# Altium footprint library PCB封装.PcbLib: 150 footprints (part 10 of 10)
Each footprint in its own frame and in the unit in brackets; x right, y up, seen from the top. Pads: shape width x height; smd on the part's side, far side on the other; paste and mask are expansions set on the pad; w line width, h text height; cw(c..) or ccw(c..) is an arc to the next point about the centre after c.
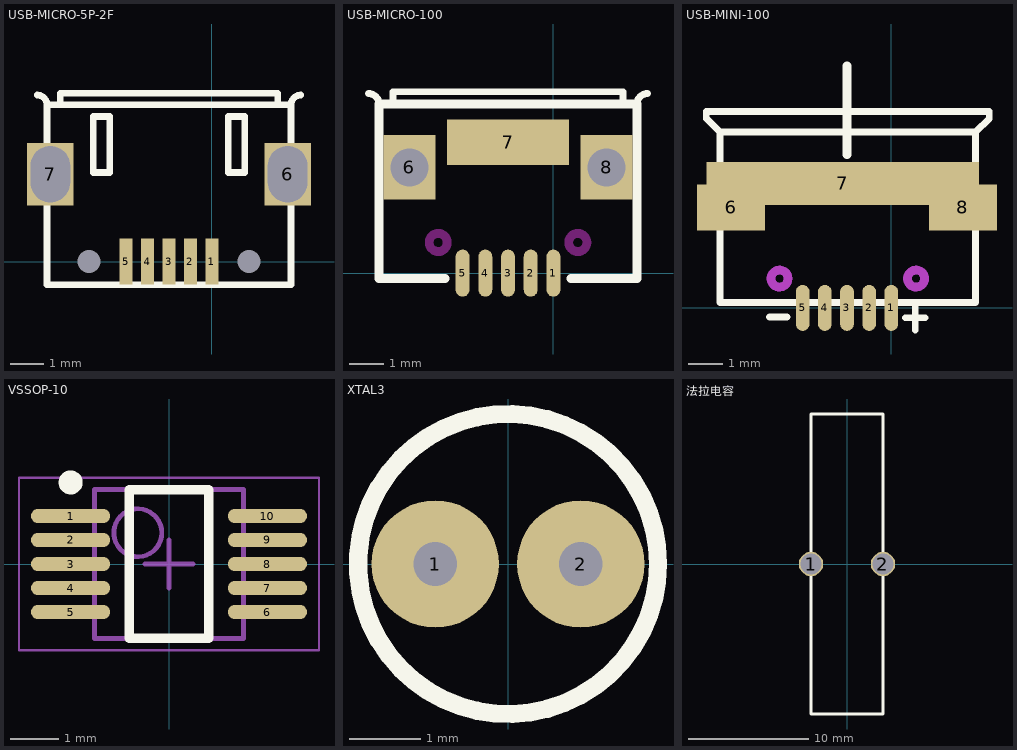
[diagram p9: the footprints below, top view; thin cyan lines are the x and y axes]

## USB-MICRO-5P-2F [mm]
pads (9):
  round 0 hole 0.7: 0(-3.725,0) 0(1.125,0)
  rect 0.4x1.4 smd: 1(0,0) 2(-0.65,0) 3(-1.3,0) 4(-1.95,0) 5(-2.6,0)
  rect 1.4x1.9 hole 1.2 slot 1.7 at 90 deg: 6(2.3,2.65) 7(-4.9,2.65)
Top Overlay:
  lines w0.2: -5.3,5.05 cw(c-5.3,4.75) -5,4.75 2.4,4.75 cw(c2.7,4.75) 2.7,5.05 ; -5,4.8 -5,-0.7 2.4,-0.7 2.4,4.8 ; -4.6,4.75 -4.6,5.1 2,5.1 2,4.75 ; -3.6,2.7 -3.1,2.7 -3.1,4.4 -3.6,4.4 -3.6,2.7 ; 0.5,2.7 1,2.7 1,4.4 0.5,4.4 0.5,2.7

## USB-MICRO-100 [mm]
pads (8):
  oval 0.4x1.35 smd: 1(0,0) 2(-0.65,0) 3(-1.3,0) 4(-1.95,0) 5(-2.6,0)
  rect 1.5x1.85 hole 1.1: 6(-4.125,3.03) 8(1.525,3.03)
  rect 3.5x1.3 smd: 7(-1.3,3.75)
Top Overlay:
  lines w0.2: -5.3,5.15 cw(c-5.3,4.85) -5,4.85 ; -4.6,4.85 -4.6,5.2 2,5.2 2,4.85 ; 2.4,4.85 cw(c2.7,4.85) 2.7,5.15
  lines w0.254: -3.1,-0.15 -5,-0.15 -5,4.85 2.4,4.85 2.4,-0.15 0.5,-0.15
Bottom Overlay:
  lines w0.254: -5.4,4.65 2.8,4.65 ; -5.4,-0.15 2.8,-0.15 2.8,5.25 -5.4,5.25 -5.4,-0.15
Keep-Out Layer:
  circle w0.254: c-3.3,0.88 r0.26
  circle w0.254: c0.7,0.88 r0.26

## USB-MINI-100 [mm]
pads (8):
  oval 0.4x1.35 smd: 1(0,0) 2(-0.65,0) 3(-1.3,0) 4(-1.95,0) 5(-2.6,0)
  rect 2x1.35 smd: 6(-4.7,2.95) 8(2.1,2.95)
  rect 8x1.27 smd: 7(-1.422,3.65)
Top Overlay:
  lines w0.2: -3.57,-0.27 -3.06,-0.27 ; 0.41,-0.29 0.99,-0.29 ; 0.7,-0.65 0.7,0.05 ; -5.026,5.158 -5.426,5.558 -5.426,5.758 2.874,5.758 2.874,5.558 2.474,5.158 ; -5.026,5.158 -5.026,0.158 2.474,0.158 2.474,5.158 ; -5.026,5.158 2.474,5.158
  lines w0.254: -1.3,4.5 -1.3,7.1
Keep-Out Layer:
  circle w0.254: c0.725,0.86 r0.25
  circle w0.254: c-3.28,0.86 r0.25
Mechanical 1:
  circle w0.254: c-3.28,0.86 r0.25
  circle w0.254: c0.725,0.86 r0.25

## VSSOP-10 [mm] "INA226"
height 1.1
pads (10):
  oval 1.65x0.3 smd: 1(-2.05,1) 2(-2.05,0.5) 3(-2.05,0) 4(-2.05,-0.5) 5(-2.05,-1) 6(2.05,-1) 7(2.05,-0.5) 8(2.05,0) 9(2.05,0.5) 10(2.05,1)
Top Overlay:
  circle w0.25: c-2.05,1.7 r0.125
  lines w0.2: -0.825,-1.55 0.825,-1.55 0.825,1.55 -0.825,1.55 -0.825,-1.55
Mechanical 13:
  circle w0.1: c-0.65,0.65 r0.5
  lines w0.1: -1.55,-1.55 1.55,-1.55 1.55,1.55 -1.55,1.55 -1.55,-1.55
Mechanical 15:
  lines w0.05: -3.125,-1.8 3.125,-1.8 3.125,1.8 -3.125,1.8 -3.125,-1.8
  lines w0.1: -0.5,0 0.5,0 ; 0,-0.5 0,0.5
3D body: height 1.1, standoff 0.05, extent -1.55,-1.55 1.55,1.55

## XTAL3 [mil]
pads (2):
  round 70 on Top hole 24: 1(-40,0) 2(40,0)
Top Overlay:
  circle w10: c0,0 r82.46

## 法拉电容 [mil]
height 984.25
pads (2):
  round 80 hole 70: 1(-118.11,0) 2(118.11,0)
Top Overlay:
  lines w10: -118.11,-492.13 -118.11,492.13 118.11,492.13 118.11,-492.13 -118.11,-492.13